# Altium schematic symbol library U_VN5-Driver.SchLib: 1 symbol
Pins are listed as number, name and electrical type; pins without a type are passive.

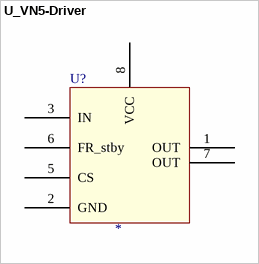
[diagram p0: symbol U_VN5-Driver]

## U_VN5-Driver
designator U?
pins: 1 OUT, 2 GND, 3 IN, 5 CS, 6 FR_stby, 7 OUT, 8 VCC